# Altium footprint library gecko3-library.PcbLib: 40 footprints (part 1 of 3)
Each footprint in its own frame and in the unit in brackets; x right, y up, seen from the top. Pads: shape width x height; smd on the part's side, far side on the other; paste and mask are expansions set on the pad; w line width, h text height; cw(c..) or ccw(c..) is an arc to the next point about the centre after c.
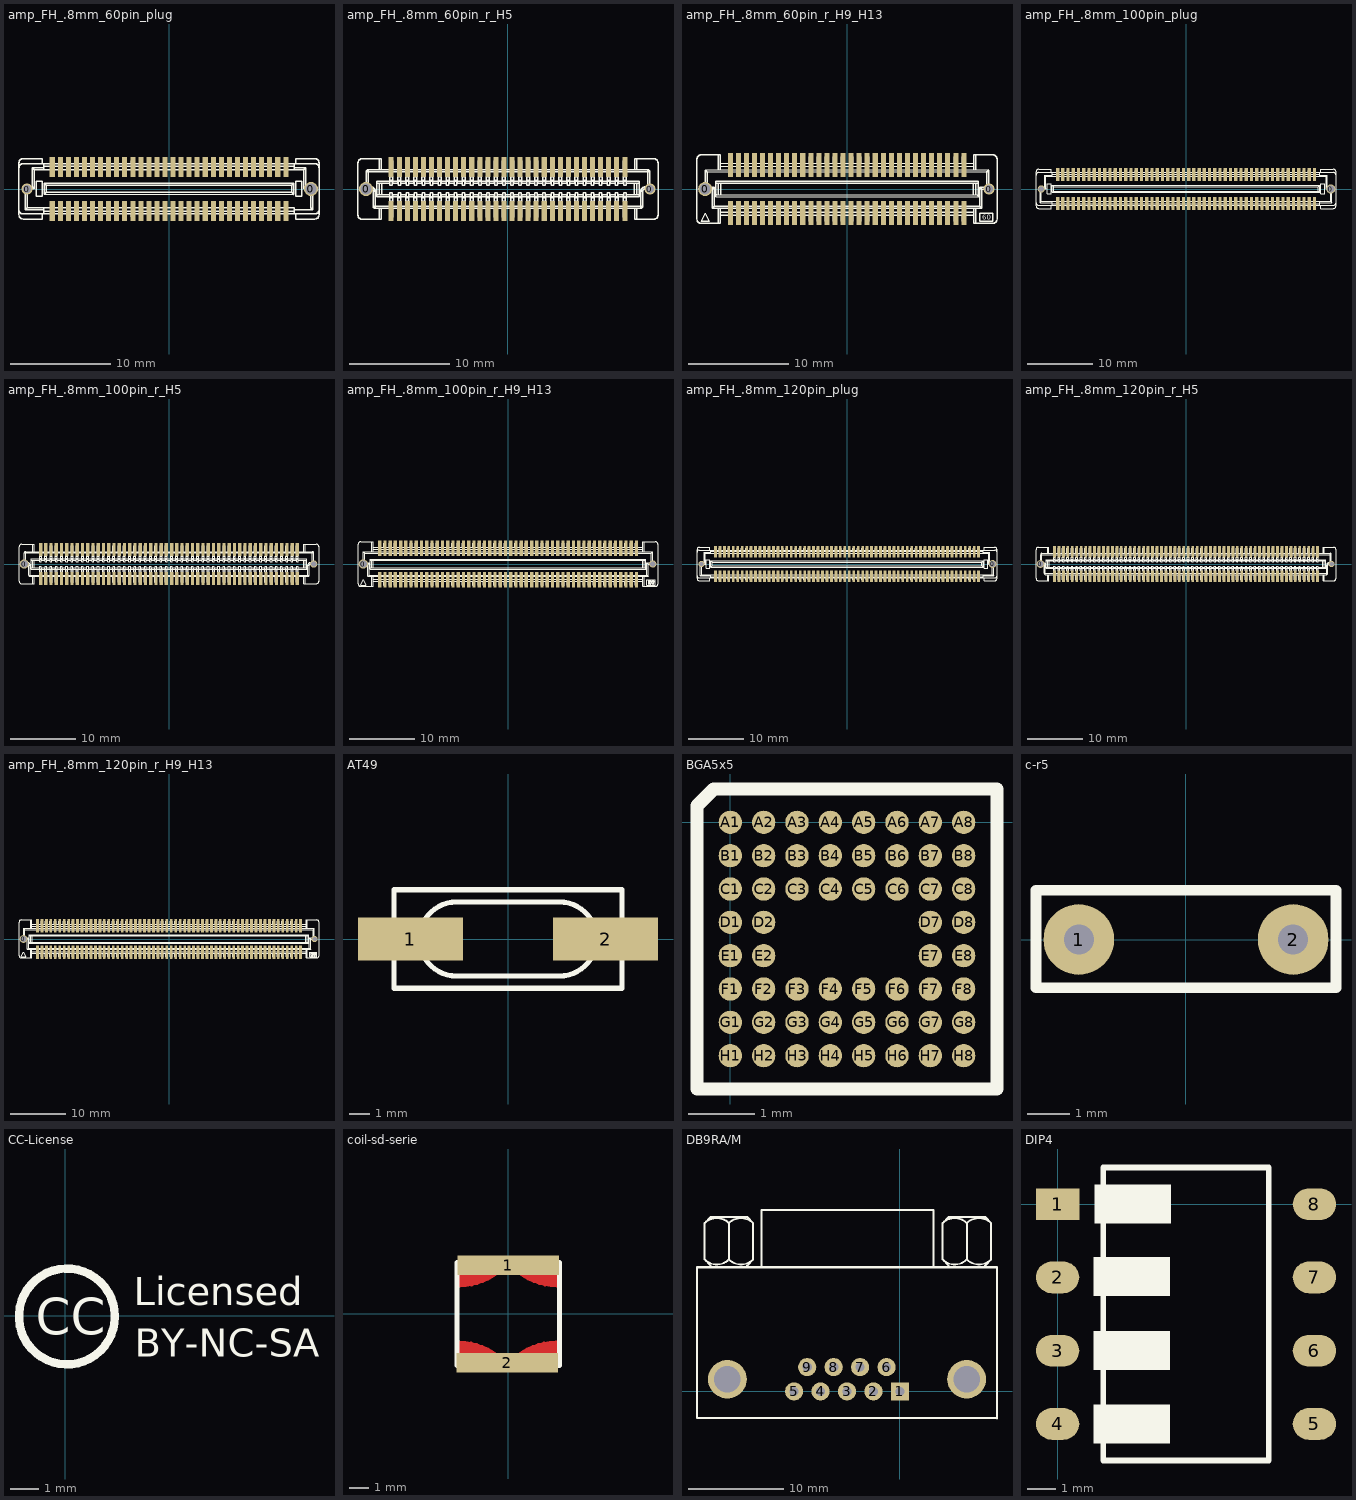
[diagram p0: the footprints below, top view; thin cyan lines are the x and y axes]

## amp_FH_.8mm_60pin_plug [mm] "AMP Free Height System, 0.8mm, 60 Pin, all Heights, Plug"
height 8
pads (62):
  round 1.1 hole 0.8: 0(-14.1,0)
  round 1.4 hole 1.1: 0(14.1,0)
  rect 0.5x2 smd: 1(-11.6,2.2) 2(-11.6,-2.2) 3(-10.8,2.2) 4(-10.8,-2.2) 5(-10,2.2) 6(-10,-2.2) 7(-9.2,2.2) 8(-9.2,-2.2) 9(-8.4,2.2) 10(-8.4,-2.2) 11(-7.6,2.2) 12(-7.6,-2.2) 13(-6.8,2.2) 14(-6.8,-2.2) 15(-6,2.2) 16(-6,-2.2) 17(-5.2,2.2) 18(-5.2,-2.2) 19(-4.4,2.2) 20(-4.4,-2.2) 21(-3.6,2.2) 22(-3.6,-2.2) 23(-2.8,2.2) 24(-2.8,-2.2) 25(-2,2.2) 26(-2,-2.2) 27(-1.2,2.2) 28(-1.2,-2.2) 29(-0.4,2.2) 30(-0.4,-2.2) 31(0.4,2.2) 32(0.4,-2.2) 33(1.2,2.2) 34(1.2,-2.2) 35(2,2.2) 36(2,-2.2) 37(2.8,2.2) 38(2.8,-2.2) 39(3.6,2.2) 40(3.6,-2.2) 41(4.4,2.2) 42(4.4,-2.2) 43(5.2,2.2) 44(5.2,-2.2) 45(6,2.2) 46(6,-2.2) 47(6.8,2.2) 48(6.8,-2.2) 49(7.6,2.2) 50(7.6,-2.2) 51(8.4,2.2) 52(8.4,-2.2) 53(9.2,2.2) 54(9.2,-2.2) 55(10,2.2) 56(10,-2.2) 57(10.8,2.2) 58(10.8,-2.2) 59(11.6,2.2) 60(11.6,-2.2)
Top Overlay:
  drawing of 252 lines, arcs and shapes, not listed

## amp_FH_.8mm_60pin_r_H5 [mm] "AMP Free Height System, 0.8mm, 100 Pin, 5mm Heigth, Receptacle"
height 5
pads (62):
  round 1.4 hole 1.1: 0(-14.1,0)
  round 1.1 hole 0.8: 0(14.1,0)
  rect 0.5x2 smd: 1(-11.6,-2.2) 2(-11.6,2.2) 3(-10.8,-2.2) 4(-10.8,2.2) 5(-10,-2.2) 6(-10,2.2) 7(-9.2,-2.2) 8(-9.2,2.2) 9(-8.4,-2.2) 10(-8.4,2.2) 11(-7.6,-2.2) 12(-7.6,2.2) 13(-6.8,-2.2) 14(-6.8,2.2) 15(-6,-2.2) 16(-6,2.2) 17(-5.2,-2.2) 18(-5.2,2.2) 19(-4.4,-2.2) 20(-4.4,2.2) 21(-3.6,-2.2) 22(-3.6,2.2) 23(-2.8,-2.2) 24(-2.8,2.2) 25(-2,-2.2) 26(-2,2.2) 27(-1.2,-2.2) 28(-1.2,2.2) 29(-0.4,-2.2) 30(-0.4,2.2) 31(0.4,-2.2) 32(0.4,2.2) 33(1.2,-2.2) 34(1.2,2.2) 35(2,-2.2) 36(2,2.2) 37(2.8,-2.2) 38(2.8,2.2) 39(3.6,-2.2) 40(3.6,2.2) 41(4.4,-2.2) 42(4.4,2.2) 43(5.2,-2.2) 44(5.2,2.2) 45(6,-2.2) 46(6,2.2) 47(6.8,-2.2) 48(6.8,2.2) 49(7.6,-2.2) 50(7.6,2.2) 51(8.4,-2.2) 52(8.4,2.2) 53(9.2,-2.2) 54(9.2,2.2) 55(10,-2.2) 56(10,2.2) 57(10.8,-2.2) 58(10.8,2.2) 59(11.6,-2.2) 60(11.6,2.2)
Top Overlay:
  drawing of 838 lines, arcs and shapes, not listed

## amp_FH_.8mm_60pin_r_H9_H13 [mm] "Height System, 0.8mm, 60 Pin, 9 or 13mm Heigth, Receptacle"
height 13
pads (62):
  round 1.4 hole 1.1: 0(-14.1,0)
  round 1.1 hole 0.8: 0(14.1,0)
  rect 0.5x2.4 smd: 1(-11.6,-2.4) 2(-11.6,2.4) 3(-10.8,-2.4) 4(-10.8,2.4) 5(-10,-2.4) 6(-10,2.4) 7(-9.2,-2.4) 8(-9.2,2.4) 9(-8.4,-2.4) 10(-8.4,2.4) 11(-7.6,-2.4) 12(-7.6,2.4) 13(-6.8,-2.4) 14(-6.8,2.4) 15(-6,-2.4) 16(-6,2.4) 17(-5.2,-2.4) 18(-5.2,2.4) 19(-4.4,-2.4) 20(-4.4,2.4) 21(-3.6,-2.4) 22(-3.6,2.4) 23(-2.8,-2.4) 24(-2.8,2.4) 25(-2,-2.4) 26(-2,2.4) 27(-1.2,-2.4) 28(-1.2,2.4) 29(-0.4,-2.4) 30(-0.4,2.4) 31(0.4,-2.4) 32(0.4,2.4) 33(1.2,-2.4) 34(1.2,2.4) 35(2,-2.4) 36(2,2.4) 37(2.8,-2.4) 38(2.8,2.4) 39(3.6,-2.4) 40(3.6,2.4) 41(4.4,-2.4) 42(4.4,2.4) 43(5.2,-2.4) 44(5.2,2.4) 45(6,-2.4) 46(6,2.4) 47(6.8,-2.4) 48(6.8,2.4) 49(7.6,-2.4) 50(7.6,2.4) 51(8.4,-2.4) 52(8.4,2.4) 53(9.2,-2.4) 54(9.2,2.4) 55(10,-2.4) 56(10,2.4) 57(10.8,-2.4) 58(10.8,2.4) 59(11.6,-2.4) 60(11.6,2.4)
Top Overlay:
  drawing of 243 lines, arcs and shapes, not listed
  text "60" at 13.45,-3.075 h0.52

## amp_FH_.8mm_100pin_plug [mm] "AMP Free Height System, 0.8mm, 100 Pin, all Heights, Plug"
height 5
pads (102):
  round 1.1 hole 0.8: 0(-22.1,0)
  round 1.4 hole 1.1: 0(22.1,0)
  rect 0.5x2 smd paste-0.05: 1(-19.6,2.2) 2(-19.6,-2.2) 3(-18.8,2.2) 4(-18.8,-2.2) 5(-18,2.2) 6(-18,-2.2) 7(-17.2,2.2) 8(-17.2,-2.2) 9(-16.4,2.2) 10(-16.4,-2.2) 11(-15.6,2.2) 12(-15.6,-2.2) 13(-14.8,2.2) 14(-14.8,-2.2) 15(-14,2.2) 16(-14,-2.2) 17(-13.2,2.2) 18(-13.2,-2.2) 19(-12.4,2.2) 20(-12.4,-2.2) 21(-11.6,2.2) 22(-11.6,-2.2) 23(-10.8,2.2) 24(-10.8,-2.2) 25(-10,2.2) 26(-10,-2.2) 27(-9.2,2.2) 28(-9.2,-2.2) 29(-8.4,2.2) 30(-8.4,-2.2) 31(-7.6,2.2) 32(-7.6,-2.2) 33(-6.8,2.2) 34(-6.8,-2.2) 35(-6,2.2) 36(-6,-2.2) 37(-5.2,2.2) 38(-5.2,-2.2) 39(-4.4,2.2) 40(-4.4,-2.2) 41(-3.6,2.2) 42(-3.6,-2.2) 43(-2.8,2.2) 44(-2.8,-2.2) 45(-2,2.2) 46(-2,-2.2) 47(-1.2,2.2) 48(-1.2,-2.2) 49(-0.4,2.2) 50(-0.4,-2.2) 51(0.4,2.2) 52(0.4,-2.2) 53(1.2,2.2) 54(1.2,-2.2) 55(2,2.2) 56(2,-2.2) 57(2.8,2.2) 58(2.8,-2.2) 59(3.6,2.2) 60(3.6,-2.2) 61(4.4,2.2) 62(4.4,-2.2) 63(5.2,2.2) 64(5.2,-2.2) 65(6,2.2) 66(6,-2.2) 67(6.8,2.2) 68(6.8,-2.2) 69(7.6,2.2) 70(7.6,-2.2) 71(8.4,2.2) 72(8.4,-2.2) 73(9.2,2.2) 74(9.2,-2.2) 75(10,2.2) 76(10,-2.2) 77(10.8,2.2) 78(10.8,-2.2) 79(11.6,2.2) 80(11.6,-2.2) 81(12.4,2.2) 82(12.4,-2.2) 83(13.2,2.2) 84(13.2,-2.2) 85(14,2.2) 86(14,-2.2) 87(14.8,2.2) 88(14.8,-2.2) 89(15.6,2.2) 90(15.6,-2.2) 91(16.4,2.2) 92(16.4,-2.2) 93(17.2,2.2) 94(17.2,-2.2) 95(18,2.2) 96(18,-2.2) 97(18.8,2.2) 98(18.8,-2.2) 99(19.6,2.2) 100(19.6,-2.2)
Top Overlay:
  drawing of 372 lines, arcs and shapes, not listed

## amp_FH_.8mm_100pin_r_H5 [mm] "AMP Free Height System, 0.8mm, 100 Pin, 5mm Heigth, Receptacle"
height 5
pads (102):
  round 1.4 hole 1.1: 0(-22.1,0)
  round 1.1 hole 0.8: 0(22.1,0)
  rect 0.5x2 smd paste-0.05: 1(-19.6,-2.2) 2(-19.6,2.2) 3(-18.8,-2.2) 4(-18.8,2.2) 5(-18,-2.2) 6(-18,2.2) 7(-17.2,-2.2) 8(-17.2,2.2) 9(-16.4,-2.2) 10(-16.4,2.2) 11(-15.6,-2.2) 12(-15.6,2.2) 13(-14.8,-2.2) 14(-14.8,2.2) 15(-14,-2.2) 16(-14,2.2) 17(-13.2,-2.2) 18(-13.2,2.2) 19(-12.4,-2.2) 20(-12.4,2.2) 21(-11.6,-2.2) 22(-11.6,2.2) 23(-10.8,-2.2) 24(-10.8,2.2) 25(-10,-2.2) 26(-10,2.2) 27(-9.2,-2.2) 28(-9.2,2.2) 29(-8.4,-2.2) 30(-8.4,2.2) 31(-7.6,-2.2) 32(-7.6,2.2) 33(-6.8,-2.2) 34(-6.8,2.2) 35(-6,-2.2) 36(-6,2.2) 37(-5.2,-2.2) 38(-5.2,2.2) 39(-4.4,-2.2) 40(-4.4,2.2) 41(-3.6,-2.2) 42(-3.6,2.2) 43(-2.8,-2.2) 44(-2.8,2.2) 45(-2,-2.2) 46(-2,2.2) 47(-1.2,-2.2) 48(-1.2,2.2) 49(-0.4,-2.2) 50(-0.4,2.2) 51(0.4,-2.2) 52(0.4,2.2) 53(1.2,-2.2) 54(1.2,2.2) 55(2,-2.2) 56(2,2.2) 57(2.8,-2.2) 58(2.8,2.2) 59(3.6,-2.2) 60(3.6,2.2) 61(4.4,-2.2) 62(4.4,2.2) 63(5.2,-2.2) 64(5.2,2.2) 65(6,-2.2) 66(6,2.2) 67(6.8,-2.2) 68(6.8,2.2) 69(7.6,-2.2) 70(7.6,2.2) 71(8.4,-2.2) 72(8.4,2.2) 73(9.2,-2.2) 74(9.2,2.2) 75(10,-2.2) 76(10,2.2) 77(10.8,-2.2) 78(10.8,2.2) 79(11.6,-2.2) 80(11.6,2.2) 81(12.4,-2.2) 82(12.4,2.2) 83(13.2,-2.2) 84(13.2,2.2) 85(14,-2.2) 86(14,2.2) 87(14.8,-2.2) 88(14.8,2.2) 89(15.6,-2.2) 90(15.6,2.2) 91(16.4,-2.2) 92(16.4,2.2) 93(17.2,-2.2) 94(17.2,2.2) 95(18,-2.2) 96(18,2.2) 97(18.8,-2.2) 98(18.8,2.2) 99(19.6,-2.2) 100(19.6,2.2)
Top Overlay:
  drawing of 1358 lines, arcs and shapes, not listed

## amp_FH_.8mm_100pin_r_H9_H13 [mm] "AMP Free Height System, 0.8mm, 100 Pin, 9 or 13mm Heigth, Receptacle"
height 13
pads (102):
  round 1.4 hole 1.1: 0(-22.1,0)
  round 1.1 hole 0.8: 0(22.1,0)
  rect 0.5x2.4 smd paste-0.05: 1(-19.6,-2.4) 2(-19.6,2.4) 3(-18.8,-2.4) 4(-18.8,2.4) 5(-18,-2.4) 6(-18,2.4) 7(-17.2,-2.4) 8(-17.2,2.4) 9(-16.4,-2.4) 10(-16.4,2.4) 11(-15.6,-2.4) 12(-15.6,2.4) 13(-14.8,-2.4) 14(-14.8,2.4) 15(-14,-2.4) 16(-14,2.4) 17(-13.2,-2.4) 18(-13.2,2.4) 19(-12.4,-2.4) 20(-12.4,2.4) 21(-11.6,-2.4) 22(-11.6,2.4) 23(-10.8,-2.4) 24(-10.8,2.4) 25(-10,-2.4) 26(-10,2.4) 27(-9.2,-2.4) 28(-9.2,2.4) 29(-8.4,-2.4) 30(-8.4,2.4) 31(-7.6,-2.4) 32(-7.6,2.4) 33(-6.8,-2.4) 34(-6.8,2.4) 35(-6,-2.4) 36(-6,2.4) 37(-5.2,-2.4) 38(-5.2,2.4) 39(-4.4,-2.4) 40(-4.4,2.4) 41(-3.6,-2.4) 42(-3.6,2.4) 43(-2.8,-2.4) 44(-2.8,2.4) 45(-2,-2.4) 46(-2,2.4) 47(-1.2,-2.4) 48(-1.2,2.4) 49(-0.4,-2.4) 50(-0.4,2.4) 51(0.4,-2.4) 52(0.4,2.4) 53(1.2,-2.4) 54(1.2,2.4) 55(2,-2.4) 56(2,2.4) 57(2.8,-2.4) 58(2.8,2.4) 59(3.6,-2.4) 60(3.6,2.4) 61(4.4,-2.4) 62(4.4,2.4) 63(5.2,-2.4) 64(5.2,2.4) 65(6,-2.4) 66(6,2.4) 67(6.8,-2.4) 68(6.8,2.4) 69(7.6,-2.4) 70(7.6,2.4) 71(8.4,-2.4) 72(8.4,2.4) 73(9.2,-2.4) 74(9.2,2.4) 75(10,-2.4) 76(10,2.4) 77(10.8,-2.4) 78(10.8,2.4) 79(11.6,-2.4) 80(11.6,2.4) 81(12.4,-2.4) 82(12.4,2.4) 83(13.2,-2.4) 84(13.2,2.4) 85(14,-2.4) 86(14,2.4) 87(14.8,-2.4) 88(14.8,2.4) 89(15.6,-2.4) 90(15.6,2.4) 91(16.4,-2.4) 92(16.4,2.4) 93(17.2,-2.4) 94(17.2,2.4) 95(18,-2.4) 96(18,2.4) 97(18.8,-2.4) 98(18.8,2.4) 99(19.6,-2.4) 100(19.6,2.4)
Top Overlay:
  drawing of 458 lines, arcs and shapes, not listed

## amp_FH_.8mm_120pin_plug [mm] "AMP Free Height System, 0.8mm, 100 Pin, all Heights, Plug"
height 13
pads (122):
  round 1.1 hole 0.8: 0(-26.1,0)
  round 1.4 hole 1.1: 0(26.1,0)
  rect 0.5x2 smd paste-0.05: 1(-23.6,2.2) 2(-23.6,-2.2) 3(-22.8,2.2) 4(-22.8,-2.2) 5(-22,2.2) 6(-22,-2.2) 7(-21.2,2.2) 8(-21.2,-2.2) 9(-20.4,2.2) 10(-20.4,-2.2) 11(-19.6,2.2) 12(-19.6,-2.2) 13(-18.8,2.2) 14(-18.8,-2.2) 15(-18,2.2) 16(-18,-2.2) 17(-17.2,2.2) 18(-17.2,-2.2) 19(-16.4,2.2) 20(-16.4,-2.2) 21(-15.6,2.2) 22(-15.6,-2.2) 23(-14.8,2.2) 24(-14.8,-2.2) 25(-14,2.2) 26(-14,-2.2) 27(-13.2,2.2) 28(-13.2,-2.2) 29(-12.4,2.2) 30(-12.4,-2.2) 31(-11.6,2.2) 32(-11.6,-2.2) 33(-10.8,2.2) 34(-10.8,-2.2) 35(-10,2.2) 36(-10,-2.2) 37(-9.2,2.2) 38(-9.2,-2.2) 39(-8.4,2.2) 40(-8.4,-2.2) 41(-7.6,2.2) 42(-7.6,-2.2) 43(-6.8,2.2) 44(-6.8,-2.2) 45(-6,2.2) 46(-6,-2.2) 47(-5.2,2.2) 48(-5.2,-2.2) 49(-4.4,2.2) 50(-4.4,-2.2) 51(-3.6,2.2) 52(-3.6,-2.2) 53(-2.8,2.2) 54(-2.8,-2.2) 55(-2,2.2) 56(-2,-2.2) 57(-1.2,2.2) 58(-1.2,-2.2) 59(-0.4,2.2) 60(-0.4,-2.2) 61(0.4,2.2) 62(0.4,-2.2) 63(1.2,2.2) 64(1.2,-2.2) 65(2,2.2) 66(2,-2.2) 67(2.8,2.2) 68(2.8,-2.2) 69(3.6,2.2) 70(3.6,-2.2) 71(4.4,2.2) 72(4.4,-2.2) 73(5.2,2.2) 74(5.2,-2.2) 75(6,2.2) 76(6,-2.2) 77(6.8,2.2) 78(6.8,-2.2) 79(7.6,2.2) 80(7.6,-2.2) 81(8.4,2.2) 82(8.4,-2.2) 83(9.2,2.2) 84(9.2,-2.2) 85(10,2.2) 86(10,-2.2) 87(10.8,2.2) 88(10.8,-2.2) 89(11.6,2.2) 90(11.6,-2.2) 91(12.4,2.2) 92(12.4,-2.2) 93(13.2,2.2) 94(13.2,-2.2) 95(14,2.2) 96(14,-2.2) 97(14.8,2.2) 98(14.8,-2.2) 99(15.6,2.2) 100(15.6,-2.2) 101(16.4,2.2) 102(16.4,-2.2) 103(17.2,2.2) 104(17.2,-2.2) 105(18,2.2) 106(18,-2.2) 107(18.8,2.2) 108(18.8,-2.2) 109(19.6,2.2) 110(19.6,-2.2) 111(20.4,2.2) 112(20.4,-2.2) 113(21.2,2.2) 114(21.2,-2.2) 115(22,2.2) 116(22,-2.2) 117(22.8,2.2) 118(22.8,-2.2) 119(23.6,2.2) 120(23.6,-2.2)
Top Overlay:
  drawing of 432 lines, arcs and shapes, not listed

## amp_FH_.8mm_120pin_r_H5 [mm] "AMP Free Height System, 0.8mm, 120 Pin, 5mm Heigth, Receptacle"
height 5
pads (122):
  round 1.4 hole 1.1: 0(-26.1,0)
  round 1.1 hole 0.8: 0(26.1,0)
  rect 0.5x2 smd paste-0.05: 1(-23.6,-2.2) 2(-23.6,2.2) 3(-22.8,-2.2) 4(-22.8,2.2) 5(-22,-2.2) 6(-22,2.2) 7(-21.2,-2.2) 8(-21.2,2.2) 9(-20.4,-2.2) 10(-20.4,2.2) 11(-19.6,-2.2) 12(-19.6,2.2) 13(-18.8,-2.2) 14(-18.8,2.2) 15(-18,-2.2) 16(-18,2.2) 17(-17.2,-2.2) 18(-17.2,2.2) 19(-16.4,-2.2) 20(-16.4,2.2) 21(-15.6,-2.2) 22(-15.6,2.2) 23(-14.8,-2.2) 24(-14.8,2.2) 25(-14,-2.2) 26(-14,2.2) 27(-13.2,-2.2) 28(-13.2,2.2) 29(-12.4,-2.2) 30(-12.4,2.2) 31(-11.6,-2.2) 32(-11.6,2.2) 33(-10.8,-2.2) 34(-10.8,2.2) 35(-10,-2.2) 36(-10,2.2) 37(-9.2,-2.2) 38(-9.2,2.2) 39(-8.4,-2.2) 40(-8.4,2.2) 41(-7.6,-2.2) 42(-7.6,2.2) 43(-6.8,-2.2) 44(-6.8,2.2) 45(-6,-2.2) 46(-6,2.2) 47(-5.2,-2.2) 48(-5.2,2.2) 49(-4.4,-2.2) 50(-4.4,2.2) 51(-3.6,-2.2) 52(-3.6,2.2) 53(-2.8,-2.2) 54(-2.8,2.2) 55(-2,-2.2) 56(-2,2.2) 57(-1.2,-2.2) 58(-1.2,2.2) 59(-0.4,-2.2) 60(-0.4,2.2) 61(0.4,-2.2) 62(0.4,2.2) 63(1.2,-2.2) 64(1.2,2.2) 65(2,-2.2) 66(2,2.2) 67(2.8,-2.2) 68(2.8,2.2) 69(3.6,-2.2) 70(3.6,2.2) 71(4.4,-2.2) 72(4.4,2.2) 73(5.2,-2.2) 74(5.2,2.2) 75(6,-2.2) 76(6,2.2) 77(6.8,-2.2) 78(6.8,2.2) 79(7.6,-2.2) 80(7.6,2.2) 81(8.4,-2.2) 82(8.4,2.2) 83(9.2,-2.2) 84(9.2,2.2) 85(10,-2.2) 86(10,2.2) 87(10.8,-2.2) 88(10.8,2.2) 89(11.6,-2.2) 90(11.6,2.2) 91(12.4,-2.2) 92(12.4,2.2) 93(13.2,-2.2) 94(13.2,2.2) 95(14,-2.2) 96(14,2.2) 97(14.8,-2.2) 98(14.8,2.2) 99(15.6,-2.2) 100(15.6,2.2) 101(16.4,-2.2) 102(16.4,2.2) 103(17.2,-2.2) 104(17.2,2.2) 105(18,-2.2) 106(18,2.2) 107(18.8,-2.2) 108(18.8,2.2) 109(19.6,-2.2) 110(19.6,2.2) 111(20.4,-2.2) 112(20.4,2.2) 113(21.2,-2.2) 114(21.2,2.2) 115(22,-2.2) 116(22,2.2) 117(22.8,-2.2) 118(22.8,2.2) 119(23.6,-2.2) 120(23.6,2.2)
Top Overlay:
  drawing of 1618 lines, arcs and shapes, not listed

## amp_FH_.8mm_120pin_r_H9_H13 [mm] "AMP Free Height System, 0.8mm, 120 Pin, 9 or 13mm Heigth, Receptacle"
height 13
pads (122):
  round 1.4 hole 1.1: 0(-26.1,0)
  round 1.1 hole 0.8: 0(26.1,0)
  rect 0.5x2.4 smd paste-0.05: 1(-23.6,-2.4) 2(-23.6,2.4) 3(-22.8,-2.4) 4(-22.8,2.4) 5(-22,-2.4) 6(-22,2.4) 7(-21.2,-2.4) 8(-21.2,2.4) 9(-20.4,-2.4) 10(-20.4,2.4) 11(-19.6,-2.4) 12(-19.6,2.4) 13(-18.8,-2.4) 14(-18.8,2.4) 15(-18,-2.4) 16(-18,2.4) 17(-17.2,-2.4) 18(-17.2,2.4) 19(-16.4,-2.4) 20(-16.4,2.4) 21(-15.6,-2.4) 22(-15.6,2.4) 23(-14.8,-2.4) 24(-14.8,2.4) 25(-14,-2.4) 26(-14,2.4) 27(-13.2,-2.4) 28(-13.2,2.4) 29(-12.4,-2.4) 30(-12.4,2.4) 31(-11.6,-2.4) 32(-11.6,2.4) 33(-10.8,-2.4) 34(-10.8,2.4) 35(-10,-2.4) 36(-10,2.4) 37(-9.2,-2.4) 38(-9.2,2.4) 39(-8.4,-2.4) 40(-8.4,2.4) 41(-7.6,-2.4) 42(-7.6,2.4) 43(-6.8,-2.4) 44(-6.8,2.4) 45(-6,-2.4) 46(-6,2.4) 47(-5.2,-2.4) 48(-5.2,2.4) 49(-4.4,-2.4) 50(-4.4,2.4) 51(-3.6,-2.4) 52(-3.6,2.4) 53(-2.8,-2.4) 54(-2.8,2.4) 55(-2,-2.4) 56(-2,2.4) 57(-1.2,-2.4) 58(-1.2,2.4) 59(-0.4,-2.4) 60(-0.4,2.4) 61(0.4,-2.4) 62(0.4,2.4) 63(1.2,-2.4) 64(1.2,2.4) 65(2,-2.4) 66(2,2.4) 67(2.8,-2.4) 68(2.8,2.4) 69(3.6,-2.4) 70(3.6,2.4) 71(4.4,-2.4) 72(4.4,2.4) 73(5.2,-2.4) 74(5.2,2.4) 75(6,-2.4) 76(6,2.4) 77(6.8,-2.4) 78(6.8,2.4) 79(7.6,-2.4) 80(7.6,2.4) 81(8.4,-2.4) 82(8.4,2.4) 83(9.2,-2.4) 84(9.2,2.4) 85(10,-2.4) 86(10,2.4) 87(10.8,-2.4) 88(10.8,2.4) 89(11.6,-2.4) 90(11.6,2.4) 91(12.4,-2.4) 92(12.4,2.4) 93(13.2,-2.4) 94(13.2,2.4) 95(14,-2.4) 96(14,2.4) 97(14.8,-2.4) 98(14.8,2.4) 99(15.6,-2.4) 100(15.6,2.4) 101(16.4,-2.4) 102(16.4,2.4) 103(17.2,-2.4) 104(17.2,2.4) 105(18,-2.4) 106(18,2.4) 107(18.8,-2.4) 108(18.8,2.4) 109(19.6,-2.4) 110(19.6,2.4) 111(20.4,-2.4) 112(20.4,2.4) 113(21.2,-2.4) 114(21.2,2.4) 115(22,-2.4) 116(22,2.4) 117(22.8,-2.4) 118(22.8,2.4) 119(23.6,-2.4) 120(23.6,2.4)
Top Overlay:
  drawing of 502 lines, arcs and shapes, not listed

## AT49 [mm] "Crystal, Low Profile SMT"
height 4.2
pads (2):
  rect 5.1x2.1 smd: 1(-4.75,0) 2(4.75,0)
Top Overlay:
  lines w0.254: -2.5,-1.805 cw(c-2.5,0) -2.5,1.805 ; -2.5,-1.8 2.5,-1.8 ; -2.5,1.8 2.5,1.8 ; 2.5,-1.805 ccw(c2.5,0) 2.5,1.805 ; -5.55,-2.4 5.55,-2.4 5.55,2.4 -5.55,2.4 -5.55,-2.4

## BGA5x5 [mm]
pads (56):
  round 0.35 smd: A1(0,0) A2(0.5,0) A3(1,0) A4(1.5,0) A5(2,0) A6(2.5,0) A7(3,0) A8(3.5,0) B1(0,-0.5) B2(0.5,-0.5) B3(1,-0.5) B4(1.5,-0.5) B5(2,-0.5) B6(2.5,-0.5) B7(3,-0.5) B8(3.5,-0.5) C1(0,-1) C2(0.5,-1) C3(1,-1) C4(1.5,-1) C5(2,-1) C6(2.5,-1) C7(3,-1) C8(3.5,-1) D1(0,-1.5) D2(0.5,-1.5) D7(3,-1.5) D8(3.5,-1.5) E1(0,-2) E2(0.5,-2) E7(3,-2) E8(3.5,-2) F1(0,-2.5) F2(0.5,-2.5) F3(1,-2.5) F4(1.5,-2.5) F5(2,-2.5) F6(2.5,-2.5) F7(3,-2.5) F8(3.5,-2.5) G1(0,-3) G2(0.5,-3) G3(1,-3) G4(1.5,-3) G5(2,-3) G6(2.5,-3) G7(3,-3) G8(3.5,-3) H1(0,-3.5) H2(0.5,-3.5) H3(1,-3.5) H4(1.5,-3.5) H5(2,-3.5) H6(2.5,-3.5) H7(3,-3.5) H8(3.5,-3.5)
Top Overlay:
  lines w0.2: -0.5,-4 4,-4 4,0.5 -0.25,0.5 -0.5,0.25 -0.5,-4

## c-r5 [mm] "Condensator spacing 5mm"
pads (2):
  round 1.651 hole 0.7: 1(-2.5,0) 2(2.5,0)
Top Overlay:
  lines w0.254: -3.5,-1.125 3.5,-1.125 3.5,1.15 -3.5,1.15 -3.5,-1.125

## CC-License [mm]
Top Overlay:
  circle w0.3: c0.052,-0.025 r1.702
  text "CC" at -1.05,-0.675 h1.3
  text "BY-NC-SA" at 2.45,-1.45 h1
  text "Licensed" at 2.425,0.375 h1

## coil-sd-serie [mm] "SD Series Coils from Coiltronics"
height 2
pads (2):
  rect 5.15x1 smd: 1(0,2.475) 2(-0.05,-2.475)
Top Layer:
  rectangle: 1.8,-2.325 2.525,-1.425
  rectangle: -2.625,-2.325 -1.9,-1.425
  rectangle: 1.85,1.45 2.575,2.35
  rectangle: -2.575,1.425 -1.85,2.325
  region: -2.206,-2.017 -1.101,-2.448 -0.87,-1.856 -1.975,-1.425
  region: 0.819,1.858 1.924,1.427 2.155,2.019 1.05,2.45
  region: 0.819,1.858 1.924,1.427 2.155,2.019 1.05,2.45
  region: 0.769,1.883 1.874,1.452 2.105,2.044 1,2.475
  region: 1.869,-1.433 0.764,-1.864 0.995,-2.456 2.1,-2.025
  region: -1.05,2.45 -2.155,2.019 -1.924,1.427 -0.819,1.858
  lines w0.254: -2.495,-1.475 cw(c-2.495,-4.541) -0.327,-2.373 ; -2.47,1.475 ccw(c-2.47,4.541) -0.302,2.373 ; 0.252,-2.373 cw(c2.42,-4.541) 2.42,-1.475 ; 0.302,2.373 ccw(c2.47,4.541) 2.47,1.475
Top Overlay:
  lines w0.254: -2.6,-2.6 2.6,-2.6 2.6,2.6 -2.6,2.6 -2.6,-2.6

## DB9RA/M [mil] "DB9 male connector"
height 551.18
pads (11):
  rect 75x75 hole 38: 1(0,0)
  round 75 hole 38: 2(-109,0) 3(-218,0) 4(-327,0) 5(-436,0) 6(-55,100) 7(-164,100) 8(-273,100) 9(-382,100)
  round 160 hole 110: ""(-711,50) ""(275,50)
Top Overlay:
  lines w7.87: -570.87,511.81 -570.87,748.03 137.8,748.03 137.8,511.81
  lines w8: -836,511.81 -836,-110.24 400,-110.24 ; -804.81,543.42 ccw(c-754.72,593.5) -704.64,543.42 ; -804.81,693.59 cw(c-754.72,643.5) -704.64,693.59 ; -779.72,518.5 -804.72,543.5 -804.72,693.5 -779.72,718.5 -629.72,718.5 -604.72,693.5 -604.72,543.5 -629.72,518.5 ; -704.81,543.42 ccw(c-654.72,593.5) -604.64,543.42 ; -704.81,693.59 cw(c-654.72,643.5) -604.64,693.59 ; -704.72,543.5 -704.72,693.5 ; 175.5,543.42 ccw(c225.59,593.5) 275.68,543.42 ; 175.5,693.59 cw(c225.59,643.5) 275.68,693.59 ; 200.59,518.5 175.59,543.5 175.59,693.5 200.59,718.5 350.59,718.5 375.59,693.5 375.59,543.5 350.59,518.5 ; 275.5,543.42 ccw(c325.59,593.5) 375.68,543.42 ; 275.5,693.59 cw(c325.59,643.5) 375.68,693.59 ; 275.59,543.5 275.59,693.5
  lines w10: -836,511.81 400,511.81 400,-110.24

## DIP4 [mm]
pads (8):
  rect 1.5x1.1 smd: 1(0,0)
  oval 1.5x1.1 smd: 2(0,-2.54) 3(0,-5.08) 4(0,-7.62) 5(8.9,-7.62) 6(8.9,-5.08) 7(8.9,-2.54) 8(8.9,0)
Top Overlay:
  rectangle: 1.25,-8.3 3.9,-6.95
  rectangle: 1.25,-5.75 3.9,-4.4
  rectangle: 1.25,-3.175 3.9,-1.825
  rectangle: 1.275,-0.675 3.925,0.675
  lines w0.2: 7.3,1.275 1.585,1.27 1.585,-8.89 7.315,-8.89 7.315,1.27